# Altium footprint library Altium Example Master PCB Library.PcbLib: 219 footprints (part 12 of 14)
Each footprint in its own frame and in the unit in brackets; x right, y up, seen from the top. Pads: shape width x height; smd on the part's side, far side on the other; paste and mask are expansions set on the pad; w line width, h text height; cw(c..) or ccw(c..) is an arc to the next point about the centre after c.
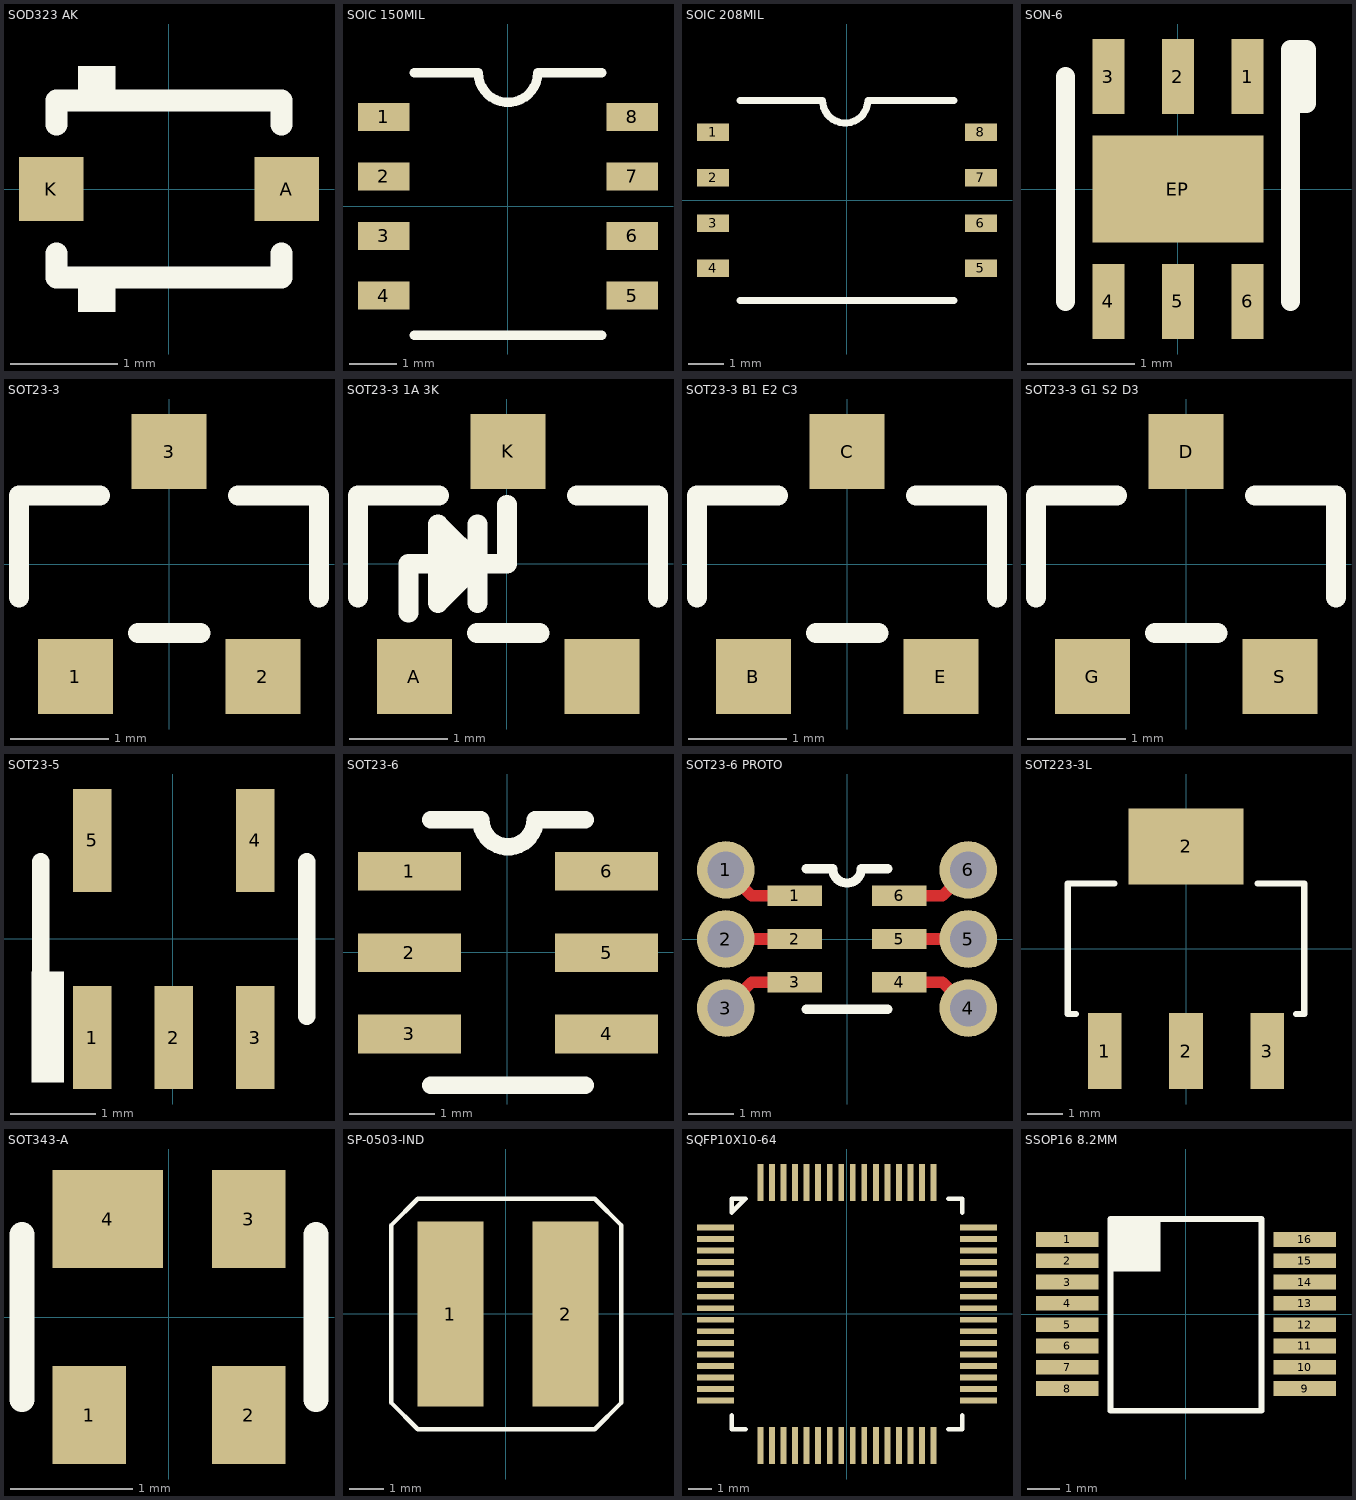
[diagram p11: the footprints below, top view; thin cyan lines are the x and y axes]

## SOD323 AK [mm]
pads (2):
  rect 0.6x0.6 smd: A(1.1,0) K(-1.1,0)
Top Overlay:
  rectangle: -0.85,0.85 -0.5,1.15
  rectangle: -0.85,-1.15 -0.5,-0.85
  lines w0.203: -1.05,-0.6 -1.05,-0.825 1.05,-0.825 1.05,-0.6 ; -1.05,0.6 -1.05,0.825 1.05,0.825 1.05,0.6 ; -0.5,-0.825 -0.4,-0.825 ; -0.4,0.825 -0.3,0.825

## SOIC 150MIL [mm]
pads (8):
  rect 1.1x0.6 smd: 1(-2.65,1.905) 2(-2.65,0.635) 3(-2.65,-0.635) 4(-2.65,-1.905) 5(2.65,-1.905) 6(2.65,-0.635) 7(2.65,0.635) 8(2.65,1.905)
Top Overlay:
  lines w0.2: -2,-2.75 2,-2.75 ; -2,2.85 -0.635,2.85 ccw(c0,2.85) 0.635,2.85 2,2.85
Mechanical 1:
  text "VERIFY" at -1.575,-2.15 h1.02

## SOIC 208MIL [mm]
pads (8):
  rect 0.9x0.49 smd: 1(-3.75,1.905) 2(-3.75,0.635) 3(-3.75,-0.635) 4(-3.75,-1.905) 5(3.75,-1.905) 6(3.75,-0.635) 7(3.75,0.635) 8(3.75,1.905)
Top Overlay:
  lines w0.2: -3,-2.8 3,-2.8 ; -3,2.8 -0.685,2.8 ccw(c-0.05,2.8) 0.585,2.8 3,2.8
Mechanical 1:
  text "VERIFY" at -1.55,-2.225 h1.02

## SON-6 [mm]
height 0.8
pads (7):
  rect 0.3x0.7 smd: 1(0.65,1.05) 2(0,1.05) 3(-0.65,1.05) 4(-0.65,-1.05) 5(0,-1.05) 6(0.65,-1.05)
  rect 1.6x1 smd: EP(0,0)
Top Overlay:
  lines w0.178: -1.05,-1.05 -1.05,1.05 ; 1.05,-1.05 1.05,1.05 1.05,1.3 1.2,1.3 1.2,0.8 1.05,0.8

## SOT23-3 [mil]
pads (3):
  rect 30x30 smd: 1(-37.5,-45) 2(37.5,-45) 3(0,45)
Top Overlay:
  lines w8: -60,-13.31 -60,27.5 -27.62,27.5 ; -12.4,-27.5 12.6,-27.5 ; 27.62,27.5 60,27.5 60,-13.31

## SOT23-3 1A 3K [mil]
pads (3):
  rect 30x30 smd: A(-37.09,-45.13) K(0.41,44.87) ""(37.91,-45.13)
Top Overlay:
  region: -27.56,15.75 -27.56,-15.75 -11.81,0
  lines w3.94: -11.81,-15.75 -11.81,0 -11.81,15.75
  lines w7.87: -39.37,-19.68 -39.37,0 -27.56,0 ; -11.81,-15.75 -11.81,15.75 ; 0,23.62 0,0 -11.81,0 ; -27.56,0 -27.56,15.75 -11.81,0 ; -27.56,0 -27.56,-15.75 -11.81,0
  lines w8: -59.59,-13.43 -59.59,27.37 -27.2,27.37 ; -11.99,-27.63 13.01,-27.63 ; 28.03,27.37 60.41,27.37 60.41,-13.43

## SOT23-3 B1 E2 C3 [mil]
pads (3):
  rect 30x30 smd: B(-37.5,-45) C(0,45) E(37.5,-45)
Top Overlay:
  lines w8: -60,-13.31 -60,27.5 -27.62,27.5 ; -12.4,-27.5 12.6,-27.5 ; 27.62,27.5 60,27.5 60,-13.31

## SOT23-3 G1 S2 D3 [mil]
pads (3):
  rect 30x30 smd: D(0,45) G(-37.5,-45) S(37.5,-45)
Top Overlay:
  lines w8: -60,-13.31 -60,27.5 -27.62,27.5 ; -12.4,-27.5 12.6,-27.5 ; 27.62,27.5 60,27.5 60,-13.31

## SOT23-5 [mm]
pads (5):
  rect 0.45x1.2 smd: 1(-0.94,-1.153) 2(0.011,-1.153) 3(0.96,-1.153) 4(0.96,1.147) 5(-0.94,1.147)
Top Overlay:
  rectangle: -1.651,-1.676 -1.27,-0.381
  lines w0.203: -1.54,-0.903 -1.54,0.897 ; 1.561,-0.903 1.561,0.897

## SOT23-6 [mm]
pads (6):
  rect 1.2x0.45 smd: 1(-1.14,0.947) 2(-1.14,-0.003) 3(-1.14,-0.953) 4(1.161,-0.953) 5(1.161,-0.003) 6(1.161,0.947)
Top Overlay:
  lines w0.203: -0.889,-1.553 0.91,-1.553 ; -0.889,1.547 -0.306,1.547 ccw(c0.011,1.547) 0.327,1.547 0.91,1.547

## SOT23-6 PROTO [mm]
pads (12):
  round 1.27 hole 0.813: 1(-2.674,1.524) 2(-2.674,0) 3(-2.674,-1.524) 4(2.674,-1.524) 5(2.674,0) 6(2.674,1.524)
  rect 1.2x0.45 smd paste-2.54: 1(-1.15,0.95) 2(-1.15,0) 3(-1.15,-0.95) 4(1.15,-0.95) 5(1.15,0) 6(1.15,0.95)
Top Layer:
  lines w0.254: -2.674,-1.524 -2.1,-0.95 -1.15,-0.95 ; -2.674,0 -1.15,0 ; -2.674,1.524 -2.1,0.95 -1.15,0.95 ; 1.15,-0.95 2.1,-0.95 2.674,-1.524 ; 1.15,0 2.674,0 ; 1.15,0.95 2.1,0.95 2.674,1.524
Top Overlay:
  lines w0.203: -0.9,-1.55 0.9,-1.55 ; -0.9,1.55 -0.316,1.55 ccw(c0,1.55) 0.316,1.55 0.9,1.55

## SOT223-3L [mm]
pads (4):
  rect 0.95x2.15 smd: 1(-2.3,-2.9) 2(0,-2.9) 3(2.3,-2.9)
  rect 3.25x2.15 smd: 2(0,2.9)
Top Overlay:
  lines w0.178: -3.125,-1.85 -3.35,-1.85 -3.35,1.85 -2.025,1.85 ; 2.025,1.85 3.35,1.85 3.35,-1.85 3.125,-1.85

## SOT343-A [mm]
pads (4):
  rect 0.6x0.8 smd: 1(-0.65,-0.8) 2(0.65,-0.8) 3(0.65,0.8)
  rect 0.9x0.8 smd: 4(-0.5,0.8)
Top Overlay:
  lines w0.203: -1.202,-0.675 -1.202,0.675 ; 1.202,-0.675 1.202,0.675

## SP-0503-IND [mm]
pads (2):
  rect 1.9x5.3 smd: 1(-1.589,-0.003) 2(1.71,-0.003)
Top Overlay:
  lines w0.127: -3.291,-2.543 -3.291,2.537 -2.529,3.299 2.551,3.299 3.313,2.537 3.313,-2.543 2.551,-3.305 -2.529,-3.305 -3.291,-2.543

## SQFP10X10-64 [mm]
pads (64):
  rect 1.6x0.254 smd: 1(-5.689,3.747) 2(-5.689,3.247) 3(-5.689,2.747) 4(-5.689,2.247) 5(-5.689,1.747) 6(-5.689,1.247) 7(-5.689,0.747) 8(-5.689,0.247) 9(-5.689,-0.253) 10(-5.689,-0.753) 11(-5.689,-1.253) 12(-5.689,-1.753) 13(-5.689,-2.253) 14(-5.689,-2.753) 15(-5.689,-3.253) 16(-5.689,-3.753) 33(5.71,-3.753) 34(5.71,-3.253) 35(5.71,-2.753) 36(5.71,-2.253) 37(5.71,-1.753) 38(5.71,-1.253) 39(5.71,-0.753) 40(5.71,-0.253) 41(5.71,0.247) 42(5.71,0.747) 43(5.71,1.247) 44(5.71,1.747) 45(5.71,2.247) 46(5.71,2.747) 47(5.71,3.247) 48(5.71,3.747)
  rect 0.254x1.6 smd: 17(-3.739,-5.703) 18(-3.239,-5.703) 19(-2.739,-5.703) 20(-2.239,-5.703) 21(-1.739,-5.703) 22(-1.239,-5.703) 23(-0.739,-5.703) 24(-0.239,-5.703) 25(0.261,-5.703) 26(0.761,-5.703) 27(1.261,-5.703) 28(1.761,-5.703) 29(2.261,-5.703) 30(2.761,-5.703) 31(3.261,-5.703) 32(3.761,-5.703) 49(3.761,5.697) 50(3.261,5.697) 51(2.761,5.697) 52(2.261,5.697) 53(1.761,5.697) 54(1.261,5.697) 55(0.761,5.697) 56(0.261,5.697) 57(-0.239,5.697) 58(-0.739,5.697) 59(-1.239,5.697) 60(-1.739,5.697) 61(-2.239,5.697) 62(-2.739,5.697) 63(-3.239,5.697) 64(-3.739,5.697)
Top Overlay:
  lines w0.203: -4.989,-4.403 -4.989,-5.003 -4.389,-5.003 ; 4.41,-5.003 5.01,-5.003 5.01,-4.403 ; 4.41,4.997 5.01,4.997 5.01,4.397 ; -4.989,4.397 -4.989,4.997 -4.389,4.997 -4.989,4.397

## SSOP16 8.2MM [mm]
pads (16):
  rect 1.9x0.45 smd: 1(-3.625,2.275) 2(-3.625,1.625) 3(-3.625,0.975) 4(-3.625,0.325) 5(-3.625,-0.325) 6(-3.625,-0.975) 7(-3.625,-1.625) 8(-3.625,-2.275) 9(3.625,-2.275) 10(3.625,-1.625) 11(3.625,-0.975) 12(3.625,-0.325) 13(3.625,0.325) 14(3.625,0.975) 15(3.625,1.625) 16(3.625,2.275)
Top Overlay:
  rectangle: -2.3,1.3 -0.785,2.941
  lines w0.178: -2.3,-2.95 2.3,-2.95 2.3,2.9 -2.3,2.9 -2.3,-2.95